# Altium schematic symbol library RDM_ALT_SCH.SchLib: 270 symbols (part 4 of 4)
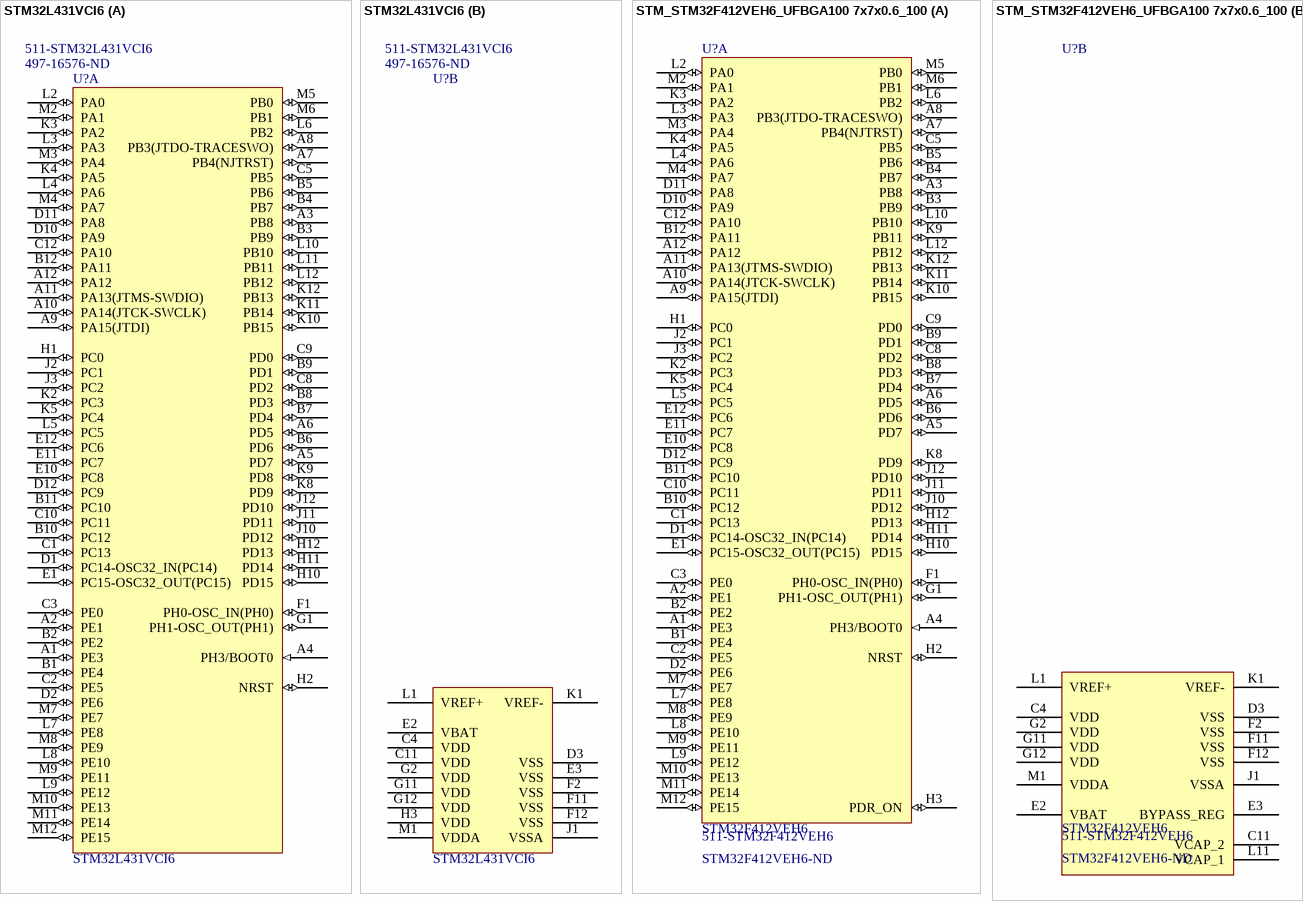
[diagram p12: symbols STM32L431VCI6 to STM_STM32F412VEH6_UFBGA100 7x7x0.6_100]

## STM32L431VCI6
designator U?  Supplier Part Number 1: 497-16576-ND  Supplier Part Number 2: 511-STM32L431VCI6
Ultra-low-power Arm® Cortex®-M4 32-bit MCU+FPU, 100DMIPS, up to 256KB Flash, 64KB SRAM, analog, audio, UFBGA100 7x7x0.6_100; Manufacturer: STMicroelectronics; Replaceable: no; ComponentLink1Description: mouser; ComponentLink1URL: https://www.mouser.ch/ProductDetail/STMicroelectronics/STM32L431VCI6?qs=%2fha2pyFadugH5aS8CDb9Mm3u%252bAbg7zIVJiWcYxu1pWKDX51qWwrkAQ%3d%3d; Manufacturer PartNr: STM32L431VCI6; Footprint/Package: UFBGA-100; Supplier 1: Digi-Key; Supplier 2: Mouser
footprint STM_UFBGA100 7x7x0.6_100_R
part A pins: A1 PE3 (io) "PE3/TRACED0,TIM3_CH1,TSC_G7_IO2,LCD_SEG39,FMC_A19,SAI1_SD_B,EVENTOUT", A2 PE1 (io) "PE1/LCD_SEG37,FMC_NBL1,TIM17_CH1,EVENTOUT", A3 PB8 (io) "PB8/TIM4_CH3,I2C1_SCL,DFSDM_DATIN6,CAN1_RX,LCD_SEG16,SDMMC1_D4,SAI1_MCLK_A,TIM16_CH1,EVENTOUT", A4 PH3/BOOT0 (in) "BOOT0", A5 PD7 (io) "PD7/DFSDM_CKIN1,USART2_CK,FMC_NE1,EVENTOUT", A6 PD5 (io) "PD5/USART2_TX,FMC_NWE,EVENTOUT", A7 PB4(NJTRST) (io) "PB4(NJTRST)/NJTRST,TIM3_CH1,SPI1_MISO,SPI3_MISO,USART1_CTS,UART5_RTS_DE,TSC_G2_IO1,LCD_SEG8,SAI1_MCLK_B,TIM17_BKIN,EVENTOUT/COMP2_INP", A8 PB3(JTDO-TRACESWO) (io) "PB3(JTDO-TRACESWO)/JTDO-TRACESWO,TIM2_CH2,SPI1_SCK,SPI3_SCK,USART1_RTS_DE,LCD_SEG7,SAI1_SCK_B,EVENTOUT/COMP2_INM", A9 PA15(JTDI) (io) "PA15(JTDI)/JTDI,TIM2_CH1,TIM2_ETR,SPI1_NSS,SPI3_NSS,UART4_RTS_DE,TSC_G3_IO1,LCD_SEG17,SAI2_FS_B,EVENTOUT", A10 PA14(JTCK-SWCLK) (io) "PA14(JTCK-SWCLK)/JTCK-SWCLK,EVENTOUT", A11 PA13(JTMS-SWDIO) (io) "PA13(JTMS-SWDIO)/JTMS-SWDIO,IR_OUT,OTG_FS_NOE,EVENTOUT", A12 PA12 (io) "PA12/TIM1_ETR,USART1_RTS_DE,CAN1_TX,OTG_FS_DP,EVENTOUT", B1 PE4 (io) "PE4/TRACED1,TIM3_CH2,DFSDM_DATIN3,TSC_G7_IO3,FMC_A20,SAI1_FS_A,EVENTOUT", B2 PE2 (io) "PE2/TRACECK,TIM3_ETR,TSC_G7_IO1,LCD_SEG38,FMC_A23,SAI1_MCLK_A,EVENTOUT", B3 PB9 (io) "PB9/IR_OUT,TIM4_CH4,I2C1_SDA,SPI2_NSS,DFSDM_CKIN6,CAN1_TX,LCD_COM3,SDMMC1_D5,SAI1_FS_A,TIM17_CH1,EVENTOUT", B4 PB7 (io) "PB7/LPTIM1_IN2,TIM4_CH2,TIM8_BKIN,I2C1_SDA,DFSDM_CKIN5,USART1_RX,UART4_CTS,TSC_G2_IO4,LCD_SEG21,FMC_NL,TIM8_BKIN_COMP1,TIM17_CH1N,EVENTOUT/COMP2_INM,PVD_IN", B5 PB6 (io) "PB6/LPTIM1_ETR,TIM4_CH1,TIM8_BKIN2,I2C1_SCL,DFSDM_DATIN5,USART1_TX,TSC_G2_IO3,TIM8_BKIN2_COMP2,SAI1_FS_B,TIM16_CH1N,EVENTOUT/COMP2_INP", B6 PD6 (io) "PD6/DFSDM_DATIN1,USART2_RX,FMC_NWAIT,SAI1_SD_A,EVENTOUT", B7 PD4 (io) "PD4/SPI2_MOSI,DFSDM_CKIN0,USART2_RTS_DE,FMC_NOE,EVENTOUT", B8 PD3 (io) "PD3/SPI2_MISO,DFSDM_DATIN0,USART2_CTS,FMC_CLK,EVENTOUT", B9 PD1 (io) "PD1/SPI2_SCK,DFSDM_CKIN7,CAN1_TX,FMC_D3,EVENTOUT", B10 PC12 (io) "PC12/SPI3_MOSI,USART3_CK,UART5_TX,TSC_G3_IO4,LCD_COM6/LCD_SEG30/LCD_SEG42,SDMMC1_CK,SAI2_SD_B,EVENTOUT", B11 PC10 (io) "PC10/SPI3_SCK,USART3_TX,UART4_TX,TSC_G3_IO2,LCD_COM4/LCD_SEG28/LCD_SEG40,SDMMC1_D2,SAI2_SCK_B,EVENTOUT", B12 PA11 (io) "PA11/TIM1_CH4,TIM1_BKIN2,USART1_CTS,CAN1_RX,OTG_FS_DM,TIM1_BKIN2_COMP1,EVENTOUT", C1 PC13 (io) "PC13/EVENTOUT/RTC_TAMP1/RTC_TS/RTC_OUT/WKUP2", C2 PE5 (io) "PE5/TRACED2,TIM3_CH3,DFSDM_CKIN3,TSC_G7_IO4,FMC_A21,SAI1_SCK_A,EVENTOUT", C3 PE0 (io) "PE0/TIM4_ETR,LCD_SEG36,FMC_NBL0,TIM16_CH1,EVENTOUT", C5 PB5 (io) "PB5/LPTIM1_IN1,TIM3_CH2,I2C1_SMBA,SPI1_MOSI,SPI3_MOSI,USART1_CK,UART5_CTS,TSC_G2_IO2,LCD_SEG9,COMP2_OUT,SAI1_SD_B,TIM16_BKIN,EVENTOUT", C8 PD2 (io) "PD2/TIM3_ETR,USART3_RTS_DE,UART5_RX,TSC_SYNC,LCD_COM7/LCD_SEG31/LCD_SEG43,SDMMC1_CMD,EVENTOUT", C9 PD0 (io) "PD0/SPI2_NSS,DFSDM_DATIN7,CAN1_RX,FMC_D2,EVENTOUT", C10 PC11 (io) "PC11/SPI3_MISO,USART3_RX,UART4_RX,TSC_G3_IO3,LCD_COM5/LCD_SEG29/LCD_SEG41,SDMMC1_D3,SAI2_MCLK_B,EVENTOUT", C12 PA10 (io) "PA10/TIM1_CH3,USART1_RX,OTG_FS_ID,LCD_COM2,TIM17_BKIN,EVENTOUT", D1 PC14-OSC32_IN(PC14) (io) "PC14-OSC32_IN(PC14)/EVENTOUT/OSC32_IN", D2 PE6 (io) "PE6/TRACED3,TIM3_CH4,FMC_A22,SAI1_SD_A,EVENTOUT/RTC_TAMP3/WKUP3", D10 PA9 (io) "PA9/TIM1_CH2,USART1_TX,LCD_COM1,TIM15_BKIN,EVENTOUT/OTG_FS_VBUS", D11 PA8 (io) "PA8/MCO,TIM1_CH1,USART1_CK,OTG_FS_SOF,LCD_COM0,LPTIM2_OUT,EVENTOUT", D12 PC9 (io) "PC9/TIM8_BKIN2,TIM3_CH4,TIM8_CH4,TSC_G4_IO4,OTG_FS_NOE,LCD_SEG27,SDMMC1_D1,SAI2_EXTCLK,TIM8_BKIN2_COMP1,EVENTOUT", E1 PC15-OSC32_OUT(PC15) (io) "PC15-OSC32_OUT(PC15)/EVENTOUT/OSC32_OUT", E10 PC8 (io) "PC8/TIM3_CH3,TIM8_CH3,TSC_G4_IO3,LCD_SEG26,SDMMC1_D0,EVENTOUT", E11 PC7 (io) "PC7/TIM3_CH2,TIM8_CH2,DFSDM_DATIN3,TSC_G4_IO2,LCD_SEG25,SDMMC1_D7,SAI2_MCLK_B,EVENTOUT", E12 PC6 (io) "PC6/TIM3_CH1,TIM8_CH1,DFSDM_CKIN3,TSC_G4_IO1,LCD_SEG24,SDMMC1_D6,SAI2_MCLK_A,EVENTOUT", F1 PH0-OSC_IN(PH0) (io) "PH0-OSC_IN(PH0)/EVENTOUT/OSC_IN", G1 PH1-OSC_OUT(PH1) (io) "PH1-OSC_OUT(PH1)/EVENTOUT/OSC_OUT", H1 PC0 (io) "PC0/LPTIM1_IN1,I2C3_SCL,DFSDM_DATIN4,LPUART1_RX,LCD_SEG18,LPTIM2_IN1,EVENTOUT/ADC123_IN1", H2 NRST (io), H10 PD15 (io) "PD15/TIM4_CH4,LCD_SEG35,FMC_D1,EVENTOUT", H11 PD14 (io) "PD14/TIM4_CH3,LCD_SEG34,FMC_D0,EVENTOUT", H12 PD13 (io) "PD13/TIM4_CH2,TSC_G6_IO4,LCD_SEG33,FMC_A18,LPTIM2_OUT,EVENTOUT", J2 PC1 (io) "PC1/LPTIM1_OUT,I2C3_SDA,DFSDM_CKIN4,LPUART1_TX,LCD_SEG19,EVENTOUT/ADC123_IN2", J3 PC2 (io) "PC2/LPTIM1_IN2,SPI2_MISO,DFSDM_CKOUT,LCD_SEG20,EVENTOUT/ADC123_IN3", J10 PD12 (io) "PD12/TIM4_CH1,USART3_RTS_DE,TSC_G6_IO3,LCD_SEG32,FMC_A17,SAI2_FS_A,LPTIM2_IN1,EVENTOUT", J11 PD11 (io) "PD11/USART3_CTS,TSC_G6_IO2,LCD_SEG31,FMC_A16,SAI2_SD_A,LPTIM2_ETR,EVENTOUT", J12 PD10 (io) "PD10/USART3_CK,TSC_G6_IO1,LCD_SEG30,FMC_D15,SAI2_SCK_A,EVENTOUT", K2 PC3 (io) "PC3/LPTIM1_ETR,SPI2_MOSI,LCD_VLCD,SAI1_SD_A,LPTIM2_ETR,EVENTOUT/ADC123_IN4", K3 PA2 (io) "PA2/TIM2_CH3,TIM5_CH3,USART2_TX,LCD_SEG1,SAI2_EXTCLK,TIM15_CH1,EVENTOUT/ADC12_IN7,WKUP4/LSCO", K4 PA5 (io) "PA5/TIM2_CH1,TIM2_ETR,TIM8_CH1N,SPI1_SCK,LPTIM2_ETR,EVENTOUT/ADC12_IN10,DAC1_OUT2", K5 PC4 (io) "PC4/USART3_TX,LCD_SEG22,EVENTOUT/COMP1_INM,ADC12_IN13", K8 PD9 (io) "PD9/USART3_RX,LCD_SEG29,FMC_D14,SAI2_MCLK_A,EVENTOUT", K9 PD8 (io) "PD8/USART3_TX,LCD_SEG28,FMC_D13,EVENTOUT", K10 PB15 (io) "PB15/RTC_REFIN,TIM1_CH3N,TIM8_CH3N,SPI2_MOSI,DFSDM_CKIN2,TSC_G1_IO4,LCD_SEG15,SWPMI1_SUSPEND,SAI2_SD_A,TIM15_CH2,EVENTOUT", K11 PB14 (io) "PB14/TIM1_CH2N,TIM8_CH2N,I2C2_SDA,SPI2_MISO,DFSDM_DATIN2,USART3_RTS_DE,TSC_G1_IO3,LCD_SEG14,SWPMI1_RX,SAI2_MCLK_A,TIM15_CH1,EVENTOUT", K12 PB13 (io) "PB13/TIM1_CH1N,I2C2_SCL,SPI2_SCK,DFSDM_CKIN1,USART3_CTS,LPUART1_CTS,TSC_G1_IO2,LCD_SEG13,SWPMI1_TX,SAI2_SCK_A,TIM15_CH1N,EVENTOUT", L2 PA0 (io) "PA0/TIM2_CH1,TIM5_CH1,TIM8_ETR,USART2_CTS,UART4_TX,SAI1_EXTCLK,TIM2_ETR,EVENTOUT/OPAMP1_VINP,ADC12_IN5,RTC_TAMP2/WKUP1", L3 PA3 (io) "PA3/TIM2_CH4,TIM5_CH4,USART2_RX,LCD_SEG2,TIM15_CH2,EVENTOUT/OPAMP1_VOUT,ADC12_IN8", L4 PA6 (io) "PA6/TIM1_BKIN,TIM3_CH1,TIM8_BKIN,SPI1_MISO,USART3_CTS,QUADSPI_BK1_IO3,LCD_SEG3,TIM1_BKIN_COMP2,TIM8_BKIN_COMP2,TIM16_CH1,EVENTOUT/OPAMP2_VINP,ADC12_IN11", L5 PC5 (io) "PC5/USART3_RX,LCD_SEG23,EVENTOUT/COMP1_INP,ADC12_IN14,WKUP5", L6 PB2 (io) "PB2/RTC_OUT,LPTIM1_OUT,I2C3_SMBA,DFSDM_CKIN0,EVENTOUT/COMP1_INP", L7 PE8 (io) "PE8/TIM1_CH1N,DFSDM_CKIN2,FMC_D5,SAI1_SCK_B,EVENTOUT", L8 PE10 (io) "PE10/TIM1_CH2N,DFSDM_DATIN4,TSC_G5_IO1,QUADSPI_CLK,FMC_D7,SAI1_MCLK_B,EVENTOUT", L9 PE12 (io) "PE12/TIM1_CH3N,SPI1_NSS,DFSDM_DATIN5,TSC_G5_IO3,QUADSPI_BK1_IO0,FMC_D9,EVENTOUT", L10 PB10 (io) "PB10/TIM2_CH3,I2C2_SCL,SPI2_SCK,DFSDM_DATIN7,USART3_TX,LPUART1_RX,QUADSPI_CLK,LCD_SEG10,COMP1_OUT,SAI1_SCK_A,EVENTOUT", L11 PB11 (io) "PB11/TIM2_CH4,I2C2_SDA,DFSDM_CKIN7,USART3_RX,LPUART1_TX,QUADSPI_NCS,LCD_SEG11,COMP2_OUT,EVENTOUT", L12 PB12 (io) "PB12/TIM1_BKIN,TIM1_BKIN_COMP2,I2C2_SMBA,SPI2_NSS,DFSDM_DATIN1,USART3_CK,LPUART1_RTS_DE,TSC_G1_IO1,LCD_SEG12,SWPMI1_IO,SAI2_FS_A,TIM15_BKIN,EVENTOUT", M2 PA1 (io) "PA1/TIM2_CH2,TIM5_CH2,USART2_RTS_DE,UART4_RX,LCD_SEG0,TIM15_CH1N,EVENTOUT/OPAMP1_VINM,ADC12_IN6", M3 PA4 (io) "PA4/SPI1_NSS,SPI3_NSS,USART2_CK,SAI1_FS_B,LPTIM2_OUT,EVENTOUT/ADC12_IN9,DAC1_OUT1", M4 PA7 (io) "PA7/TIM1_CH1N,TIM3_CH2,TIM8_CH1N,SPI1_MOSI,QUADSPI_BK1_IO2,LCD_SEG4,TIM17_CH1,EVENTOUT/OPAMP2_VINM,ADC12_IN12", M5 PB0 (io) "PB0/TIM1_CH2N,TIM3_CH3,TIM8_CH2N,USART3_CK,QUADSPI_BK1_IO1,LCD_SEG5,COMP1_OUT,EVENTOUT/OPAMP2_VOUT,ADC12_IN15", M6 PB1 (io) "PB1/TIM1_CH3N,TIM3_CH4,TIM8_CH3N,DFSDM_DATIN0,USART3_RTS_DE,QUADSPI_BK1_IO0,LCD_SEG6,LPTIM2_IN1,EVENTOUT/COMP1_INM,ADC12_IN16", M7 PE7 (io) "PE7/TIM1_ETR,DFSDM_DATIN2,FMC_D4,SAI1_SD_B,EVENTOUT", M8 PE9 (io) "PE9/TIM1_CH1,DFSDM_CKOUT,FMC_D6,SAI1_FS_B,EVENTOUT", M9 PE11 (io) "PE11/TIM1_CH2,DFSDM_CKIN4,TSC_G5_IO2,QUADSPI_NCS,FMC_D8,EVENTOUT", M10 PE13 (io) "PE13/TIM1_CH3,SPI1_SCK,DFSDM_CKIN5,TSC_G5_IO4,QUADSPI_BK1_IO1,FMC_D10,EVENTOUT", M11 PE14 (io) "PE14/TIM1_CH4,TIM1_BKIN2,TIM1_BKIN2_COMP2,SPI1_MISO,QUADSPI_BK1_IO2,FMC_D11,EVENTOUT", M12 PE15 (io) "PE15/TIM1_BKIN,TIM1_BKIN_COMP1,SPI1_MOSI,QUADSPI_BK1_IO3,FMC_D12,EVENTOUT"
part B pins: C4 VDD (power), C11 VDD (power), D3 VSS (power), E2 VBAT (power), E3 VSS (power), F2 VSS (power), F11 VSS (power), F12 VSS (power), G2 VDD (power), G11 VDD (power), G12 VDD (power), H3 VDD (power), J1 VSSA (power), K1 VREF- (power), L1 VREF+ (power) "VREF+/VREFBUF_OUT", M1 VDDA (power)

## STM_STM32F412VEH6_UFBGA100 7x7x0.6_100
designator U?, comment STM32F412VEH6  Supplier Part Number 1: STM32F412VEH6-ND  Supplier Part Number 2: 511-STM32F412VEH6
STM32 Dynamic Efficiency MCU with BAM, High-performance and DSP with FPU, ARM Cortex-M4 MCU with 512 Kbytes Flash, 100 MHz CPU, Art Accelerator, DFSDM; Manufacturer: STMicroelectronics; Replaceable: no; ComponentLink1Description: mouser; ComponentLink1URL: https://www.mouser.ch/ProductDetail/STMicroelectronics/STM32L431VCI6?qs=%2fha2pyFadugH5aS8CDb9Mm3u%252bAbg7zIVJiWcYxu1pWKDX51qWwrkAQ%3d%3d; Manufacturer PartNr: STM32F412VEH6; Footprint/Package: UFBGA-100; Supplier 1: Digi-Key; Supplier 2: Mouser
footprint STM_UFBGA100 7x7x0.6_100_R
part A pins: A1 PE3 (io) "PE3/TRACED0,TIM3_CH1,TSC_G7_IO2,LCD_SEG39,FMC_A19,SAI1_SD_B,EVENTOUT", A2 PE1 (io) "PE1/LCD_SEG37,FMC_NBL1,TIM17_CH1,EVENTOUT", A3 PB8 (io) "PB8/TIM4_CH3,I2C1_SCL,DFSDM_DATIN6,CAN1_RX,LCD_SEG16,SDMMC1_D4,SAI1_MCLK_A,TIM16_CH1,EVENTOUT", A4 PH3/BOOT0 (in) "BOOT0", A5 PD7 (io) "PD7/DFSDM_CKIN1,USART2_CK,FMC_NE1,EVENTOUT", A6 PD5 (io) "PD5/USART2_TX,FMC_NWE,EVENTOUT", A7 PB4(NJTRST) (io) "PB4(NJTRST)/NJTRST,TIM3_CH1,SPI1_MISO,SPI3_MISO,USART1_CTS,UART5_RTS_DE,TSC_G2_IO1,LCD_SEG8,SAI1_MCLK_B,TIM17_BKIN,EVENTOUT/COMP2_INP", A8 PB3(JTDO-TRACESWO) (io) "PB3(JTDO-TRACESWO)/JTDO-TRACESWO,TIM2_CH2,SPI1_SCK,SPI3_SCK,USART1_RTS_DE,LCD_SEG7,SAI1_SCK_B,EVENTOUT/COMP2_INM", A9 PA15(JTDI) (io) "PA15(JTDI)/JTDI,TIM2_CH1,TIM2_ETR,SPI1_NSS,SPI3_NSS,UART4_RTS_DE,TSC_G3_IO1,LCD_SEG17,SAI2_FS_B,EVENTOUT", A10 PA14(JTCK-SWCLK) (io) "PA14(JTCK-SWCLK)/JTCK-SWCLK,EVENTOUT", A11 PA13(JTMS-SWDIO) (io) "PA13(JTMS-SWDIO)/JTMS-SWDIO,IR_OUT,OTG_FS_NOE,EVENTOUT", A12 PA12 (io) "PA12/TIM1_ETR,USART1_RTS_DE,CAN1_TX,OTG_FS_DP,EVENTOUT", B1 PE4 (io) "PE4/TRACED1,TIM3_CH2,DFSDM_DATIN3,TSC_G7_IO3,FMC_A20,SAI1_FS_A,EVENTOUT", B2 PE2 (io) "PE2/TRACECK,TIM3_ETR,TSC_G7_IO1,LCD_SEG38,FMC_A23,SAI1_MCLK_A,EVENTOUT", B3 PB9 (io) "PB9/IR_OUT,TIM4_CH4,I2C1_SDA,SPI2_NSS,DFSDM_CKIN6,CAN1_TX,LCD_COM3,SDMMC1_D5,SAI1_FS_A,TIM17_CH1,EVENTOUT", B4 PB7 (io) "PB7/LPTIM1_IN2,TIM4_CH2,TIM8_BKIN,I2C1_SDA,DFSDM_CKIN5,USART1_RX,UART4_CTS,TSC_G2_IO4,LCD_SEG21,FMC_NL,TIM8_BKIN_COMP1,TIM17_CH1N,EVENTOUT/COMP2_INM,PVD_IN", B5 PB6 (io) "PB6/LPTIM1_ETR,TIM4_CH1,TIM8_BKIN2,I2C1_SCL,DFSDM_DATIN5,USART1_TX,TSC_G2_IO3,TIM8_BKIN2_COMP2,SAI1_FS_B,TIM16_CH1N,EVENTOUT/COMP2_INP", B6 PD6 (io) "PD6/DFSDM_DATIN1,USART2_RX,FMC_NWAIT,SAI1_SD_A,EVENTOUT", B7 PD4 (io) "PD4/SPI2_MOSI,DFSDM_CKIN0,USART2_RTS_DE,FMC_NOE,EVENTOUT", B8 PD3 (io) "PD3/SPI2_MISO,DFSDM_DATIN0,USART2_CTS,FMC_CLK,EVENTOUT", B9 PD1 (io) "PD1/SPI2_SCK,DFSDM_CKIN7,CAN1_TX,FMC_D3,EVENTOUT", B10 PC12 (io) "PC12/SPI3_MOSI,USART3_CK,UART5_TX,TSC_G3_IO4,LCD_COM6/LCD_SEG30/LCD_SEG42,SDMMC1_CK,SAI2_SD_B,EVENTOUT", B11 PC10 (io) "PC10/SPI3_SCK,USART3_TX,UART4_TX,TSC_G3_IO2,LCD_COM4/LCD_SEG28/LCD_SEG40,SDMMC1_D2,SAI2_SCK_B,EVENTOUT", B12 PA11 (io) "PA11/TIM1_CH4,TIM1_BKIN2,USART1_CTS,CAN1_RX,OTG_FS_DM,TIM1_BKIN2_COMP1,EVENTOUT", C1 PC13 (io) "PC13/EVENTOUT/RTC_TAMP1/RTC_TS/RTC_OUT/WKUP2", C2 PE5 (io) "PE5/TRACED2,TIM3_CH3,DFSDM_CKIN3,TSC_G7_IO4,FMC_A21,SAI1_SCK_A,EVENTOUT", C3 PE0 (io) "PE0/TIM4_ETR,LCD_SEG36,FMC_NBL0,TIM16_CH1,EVENTOUT", C5 PB5 (io) "PB5/LPTIM1_IN1,TIM3_CH2,I2C1_SMBA,SPI1_MOSI,SPI3_MOSI,USART1_CK,UART5_CTS,TSC_G2_IO2,LCD_SEG9,COMP2_OUT,SAI1_SD_B,TIM16_BKIN,EVENTOUT", C8 PD2 (io) "PD2/TIM3_ETR,USART3_RTS_DE,UART5_RX,TSC_SYNC,LCD_COM7/LCD_SEG31/LCD_SEG43,SDMMC1_CMD,EVENTOUT", C9 PD0 (io) "PD0/SPI2_NSS,DFSDM_DATIN7,CAN1_RX,FMC_D2,EVENTOUT", C10 PC11 (io) "PC11/SPI3_MISO,USART3_RX,UART4_RX,TSC_G3_IO3,LCD_COM5/LCD_SEG29/LCD_SEG41,SDMMC1_D3,SAI2_MCLK_B,EVENTOUT", C12 PA10 (io) "PA10/TIM1_CH3,USART1_RX,OTG_FS_ID,LCD_COM2,TIM17_BKIN,EVENTOUT", D1 PC14-OSC32_IN(PC14) (io) "PC14-OSC32_IN(PC14)/EVENTOUT/OSC32_IN", D2 PE6 (io) "PE6/TRACED3,TIM3_CH4,FMC_A22,SAI1_SD_A,EVENTOUT/RTC_TAMP3/WKUP3", D10 PA9 (io) "PA9/TIM1_CH2,USART1_TX,LCD_COM1,TIM15_BKIN,EVENTOUT/OTG_FS_VBUS", D11 PA8 (io) "PA8/MCO,TIM1_CH1,USART1_CK,OTG_FS_SOF,LCD_COM0,LPTIM2_OUT,EVENTOUT", D12 PC9 (io) "PC9/TIM8_BKIN2,TIM3_CH4,TIM8_CH4,TSC_G4_IO4,OTG_FS_NOE,LCD_SEG27,SDMMC1_D1,SAI2_EXTCLK,TIM8_BKIN2_COMP1,EVENTOUT", E1 PC15-OSC32_OUT(PC15) (io) "PC15-OSC32_OUT(PC15)/EVENTOUT/OSC32_OUT", E10 PC8 (io) "PC8/TIM3_CH3,TIM8_CH3,TSC_G4_IO3,LCD_SEG26,SDMMC1_D0,EVENTOUT", E11 PC7 (io) "PC7/TIM3_CH2,TIM8_CH2,DFSDM_DATIN3,TSC_G4_IO2,LCD_SEG25,SDMMC1_D7,SAI2_MCLK_B,EVENTOUT", E12 PC6 (io) "PC6/TIM3_CH1,TIM8_CH1,DFSDM_CKIN3,TSC_G4_IO1,LCD_SEG24,SDMMC1_D6,SAI2_MCLK_A,EVENTOUT", F1 PH0-OSC_IN(PH0) (io) "PH0-OSC_IN(PH0)/EVENTOUT/OSC_IN", G1 PH1-OSC_OUT(PH1) (io) "PH1-OSC_OUT(PH1)/EVENTOUT/OSC_OUT", H1 PC0 (io) "PC0/LPTIM1_IN1,I2C3_SCL,DFSDM_DATIN4,LPUART1_RX,LCD_SEG18,LPTIM2_IN1,EVENTOUT/ADC123_IN1", H2 NRST (io), H3 PDR_ON (io), H10 PD15 (io) "PD15/TIM4_CH4,LCD_SEG35,FMC_D1,EVENTOUT", H11 PD14 (io) "PD14/TIM4_CH3,LCD_SEG34,FMC_D0,EVENTOUT", H12 PD13 (io) "PD13/TIM4_CH2,TSC_G6_IO4,LCD_SEG33,FMC_A18,LPTIM2_OUT,EVENTOUT", J2 PC1 (io) "PC1/LPTIM1_OUT,I2C3_SDA,DFSDM_CKIN4,LPUART1_TX,LCD_SEG19,EVENTOUT/ADC123_IN2", J3 PC2 (io) "PC2/LPTIM1_IN2,SPI2_MISO,DFSDM_CKOUT,LCD_SEG20,EVENTOUT/ADC123_IN3", J10 PD12 (io) "PD12/TIM4_CH1,USART3_RTS_DE,TSC_G6_IO3,LCD_SEG32,FMC_A17,SAI2_FS_A,LPTIM2_IN1,EVENTOUT", J11 PD11 (io) "PD11/USART3_CTS,TSC_G6_IO2,LCD_SEG31,FMC_A16,SAI2_SD_A,LPTIM2_ETR,EVENTOUT", J12 PD10 (io) "PD10/USART3_CK,TSC_G6_IO1,LCD_SEG30,FMC_D15,SAI2_SCK_A,EVENTOUT", K2 PC3 (io) "PC3/LPTIM1_ETR,SPI2_MOSI,LCD_VLCD,SAI1_SD_A,LPTIM2_ETR,EVENTOUT/ADC123_IN4", K3 PA2 (io) "PA2/TIM2_CH3,TIM5_CH3,USART2_TX,LCD_SEG1,SAI2_EXTCLK,TIM15_CH1,EVENTOUT/ADC12_IN7,WKUP4/LSCO", K4 PA5 (io) "PA5/TIM2_CH1,TIM2_ETR,TIM8_CH1N,SPI1_SCK,LPTIM2_ETR,EVENTOUT/ADC12_IN10,DAC1_OUT2", K5 PC4 (io) "PC4/USART3_TX,LCD_SEG22,EVENTOUT/COMP1_INM,ADC12_IN13", K8 PD9 (io) "PD9/USART3_RX,LCD_SEG29,FMC_D14,SAI2_MCLK_A,EVENTOUT", K9 PB11 (io) "PB11/TIM2_CH4,I2C2_SDA,DFSDM_CKIN7,USART3_RX,LPUART1_TX,QUADSPI_NCS,LCD_SEG11,COMP2_OUT,EVENTOUT", K10 PB15 (io) "PB15/RTC_REFIN,TIM1_CH3N,TIM8_CH3N,SPI2_MOSI,DFSDM_CKIN2,TSC_G1_IO4,LCD_SEG15,SWPMI1_SUSPEND,SAI2_SD_A,TIM15_CH2,EVENTOUT", K11 PB14 (io) "PB14/TIM1_CH2N,TIM8_CH2N,I2C2_SDA,SPI2_MISO,DFSDM_DATIN2,USART3_RTS_DE,TSC_G1_IO3,LCD_SEG14,SWPMI1_RX,SAI2_MCLK_A,TIM15_CH1,EVENTOUT", K12 PB13 (io) "PB13/TIM1_CH1N,I2C2_SCL,SPI2_SCK,DFSDM_CKIN1,USART3_CTS,LPUART1_CTS,TSC_G1_IO2,LCD_SEG13,SWPMI1_TX,SAI2_SCK_A,TIM15_CH1N,EVENTOUT", L2 PA0 (io) "PA0/TIM2_CH1,TIM5_CH1,TIM8_ETR,USART2_CTS,UART4_TX,SAI1_EXTCLK,TIM2_ETR,EVENTOUT/OPAMP1_VINP,ADC12_IN5,RTC_TAMP2/WKUP1", L3 PA3 (io) "PA3/TIM2_CH4,TIM5_CH4,USART2_RX,LCD_SEG2,TIM15_CH2,EVENTOUT/OPAMP1_VOUT,ADC12_IN8", L4 PA6 (io) "PA6/TIM1_BKIN,TIM3_CH1,TIM8_BKIN,SPI1_MISO,USART3_CTS,QUADSPI_BK1_IO3,LCD_SEG3,TIM1_BKIN_COMP2,TIM8_BKIN_COMP2,TIM16_CH1,EVENTOUT/OPAMP2_VINP,ADC12_IN11", L5 PC5 (io) "PC5/USART3_RX,LCD_SEG23,EVENTOUT/COMP1_INP,ADC12_IN14,WKUP5", L6 PB2 (io) "PB2/RTC_OUT,LPTIM1_OUT,I2C3_SMBA,DFSDM_CKIN0,EVENTOUT/COMP1_INP", L7 PE8 (io) "PE8/TIM1_CH1N,DFSDM_CKIN2,FMC_D5,SAI1_SCK_B,EVENTOUT", L8 PE10 (io) "PE10/TIM1_CH2N,DFSDM_DATIN4,TSC_G5_IO1,QUADSPI_CLK,FMC_D7,SAI1_MCLK_B,EVENTOUT", L9 PE12 (io) "PE12/TIM1_CH3N,SPI1_NSS,DFSDM_DATIN5,TSC_G5_IO3,QUADSPI_BK1_IO0,FMC_D9,EVENTOUT", L10 PB10 (io) "PB10/TIM2_CH3,I2C2_SCL,SPI2_SCK,DFSDM_DATIN7,USART3_TX,LPUART1_RX,QUADSPI_CLK,LCD_SEG10,COMP1_OUT,SAI1_SCK_A,EVENTOUT", L12 PB12 (io) "PB12/TIM1_BKIN,TIM1_BKIN_COMP2,I2C2_SMBA,SPI2_NSS,DFSDM_DATIN1,USART3_CK,LPUART1_RTS_DE,TSC_G1_IO1,LCD_SEG12,SWPMI1_IO,SAI2_FS_A,TIM15_BKIN,EVENTOUT", M2 PA1 (io) "PA1/TIM2_CH2,TIM5_CH2,USART2_RTS_DE,UART4_RX,LCD_SEG0,TIM15_CH1N,EVENTOUT/OPAMP1_VINM,ADC12_IN6", M3 PA4 (io) "PA4/SPI1_NSS,SPI3_NSS,USART2_CK,SAI1_FS_B,LPTIM2_OUT,EVENTOUT/ADC12_IN9,DAC1_OUT1", M4 PA7 (io) "PA7/TIM1_CH1N,TIM3_CH2,TIM8_CH1N,SPI1_MOSI,QUADSPI_BK1_IO2,LCD_SEG4,TIM17_CH1,EVENTOUT/OPAMP2_VINM,ADC12_IN12", M5 PB0 (io) "PB0/TIM1_CH2N,TIM3_CH3,TIM8_CH2N,USART3_CK,QUADSPI_BK1_IO1,LCD_SEG5,COMP1_OUT,EVENTOUT/OPAMP2_VOUT,ADC12_IN15", M6 PB1 (io) "PB1/TIM1_CH3N,TIM3_CH4,TIM8_CH3N,DFSDM_DATIN0,USART3_RTS_DE,QUADSPI_BK1_IO0,LCD_SEG6,LPTIM2_IN1,EVENTOUT/COMP1_INM,ADC12_IN16", M7 PE7 (io) "PE7/TIM1_ETR,DFSDM_DATIN2,FMC_D4,SAI1_SD_B,EVENTOUT", M8 PE9 (io) "PE9/TIM1_CH1,DFSDM_CKOUT,FMC_D6,SAI1_FS_B,EVENTOUT", M9 PE11 (io) "PE11/TIM1_CH2,DFSDM_CKIN4,TSC_G5_IO2,QUADSPI_NCS,FMC_D8,EVENTOUT", M10 PE13 (io) "PE13/TIM1_CH3,SPI1_SCK,DFSDM_CKIN5,TSC_G5_IO4,QUADSPI_BK1_IO1,FMC_D10,EVENTOUT", M11 PE14 (io) "PE14/TIM1_CH4,TIM1_BKIN2,TIM1_BKIN2_COMP2,SPI1_MISO,QUADSPI_BK1_IO2,FMC_D11,EVENTOUT", M12 PE15 (io) "PE15/TIM1_BKIN,TIM1_BKIN_COMP1,SPI1_MOSI,QUADSPI_BK1_IO3,FMC_D12,EVENTOUT"
part B pins: C4 VDD (power), C11 VCAP_2 (power) "VSSA", D3 VSS (power), E2 VBAT (power), E3 BYPASS_REG (power) "VSSA", F2 VSS (power), F11 VSS (power), F12 VSS (power), G2 VDD (power), G11 VDD (power), G12 VDD (power), J1 VSSA (power), K1 VREF- (power), L1 VREF+ (power) "VREF+/VREFBUF_OUT", L11 VCAP_1 (power) "VSSA", M1 VDDA (power)

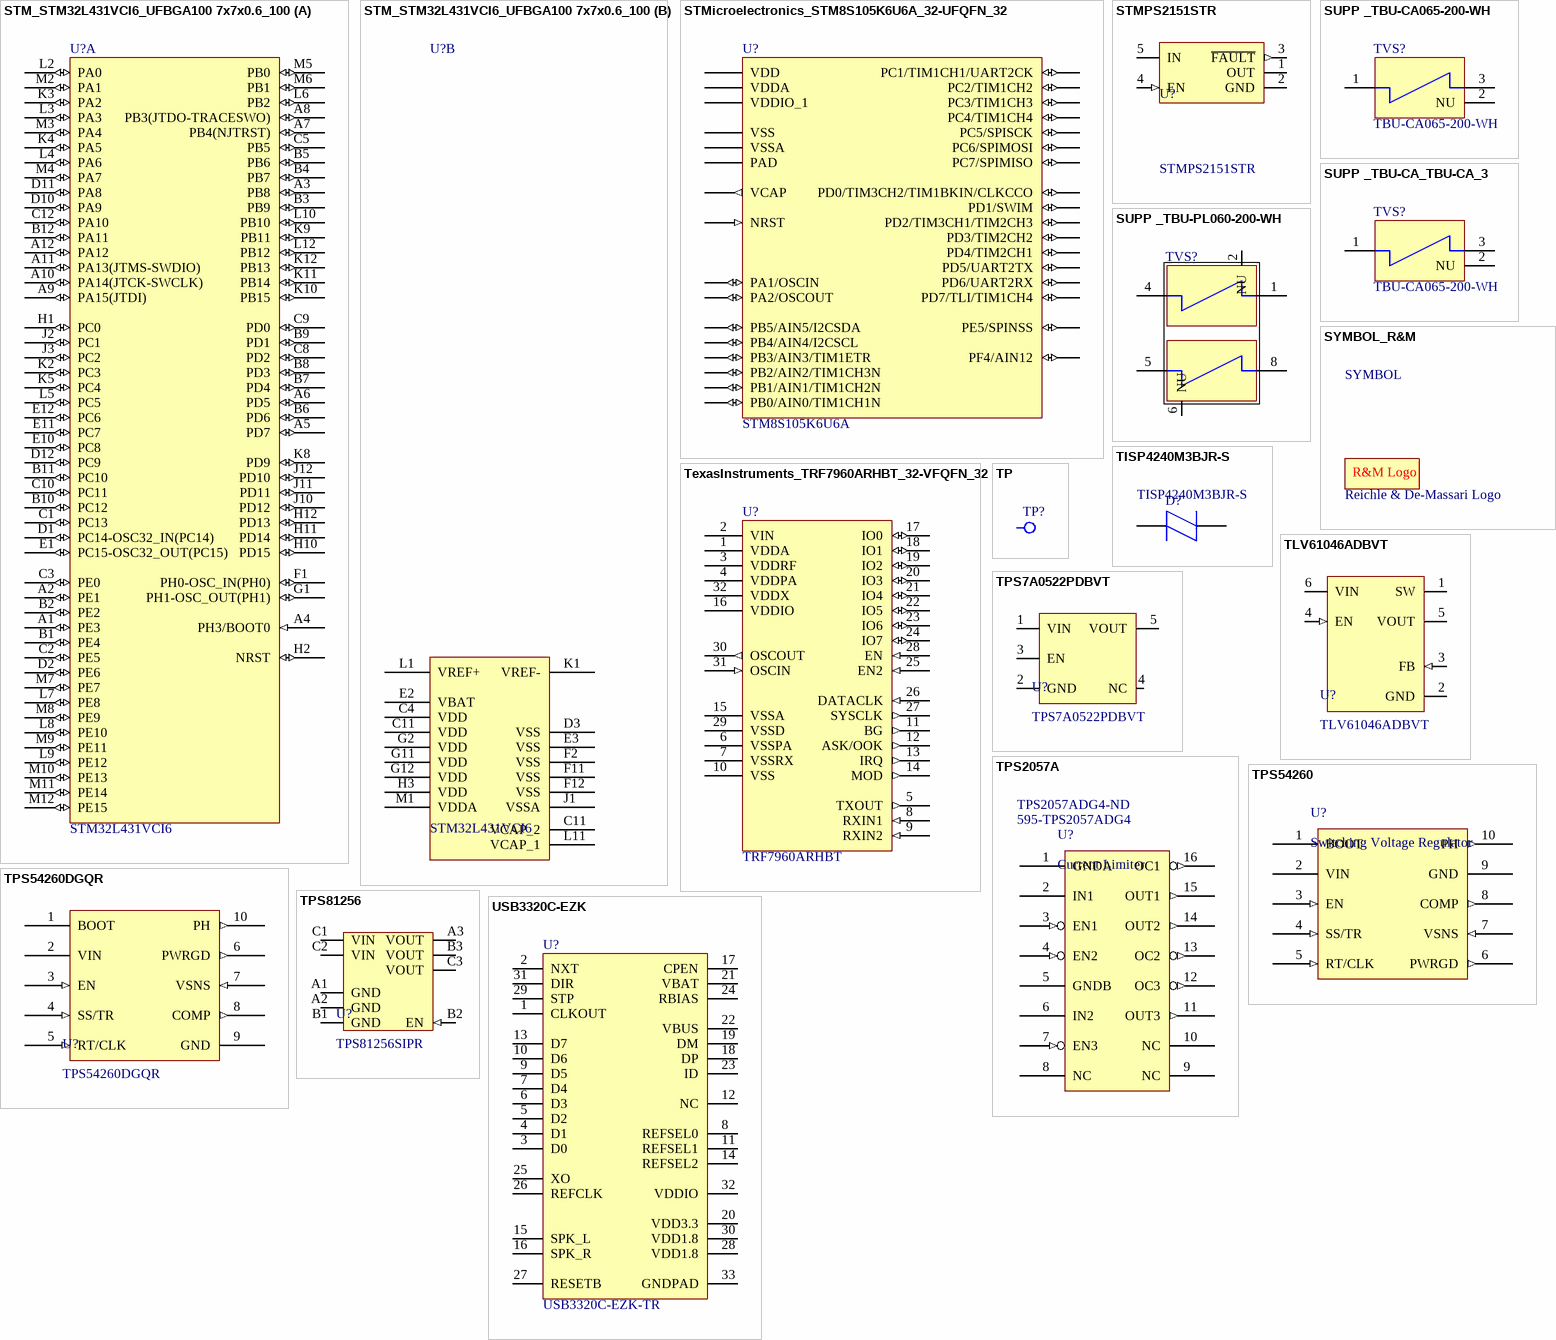
[diagram p8: symbols STM_STM32L431VCI6_UFBGA100 7x7x0.6_100 to USB3320C-EZK]

## STM_STM32L431VCI6_UFBGA100 7x7x0.6_100
designator U?, comment STM32L431VCI6
Ultra-low-power Arm® Cortex®-M4 32-bit MCU+FPU, 100DMIPS, up to 256KB Flash, 64KB SRAM, analog, audio; Manufacturer: STM; Manufacturer PartNr: STM32L431VCI6; ShortDescription: STM32L431VCI6
footprint STM_UFBGA100 7x7x0.6_100_R
part A pins: A1 PE3 (io) "PE3/TRACED0,TIM3_CH1,TSC_G7_IO2,LCD_SEG39,FMC_A19,SAI1_SD_B,EVENTOUT", A2 PE1 (io) "PE1/LCD_SEG37,FMC_NBL1,TIM17_CH1,EVENTOUT", A3 PB8 (io) "PB8/TIM4_CH3,I2C1_SCL,DFSDM_DATIN6,CAN1_RX,LCD_SEG16,SDMMC1_D4,SAI1_MCLK_A,TIM16_CH1,EVENTOUT", A4 PH3/BOOT0 (in) "BOOT0", A5 PD7 (io) "PD7/DFSDM_CKIN1,USART2_CK,FMC_NE1,EVENTOUT", A6 PD5 (io) "PD5/USART2_TX,FMC_NWE,EVENTOUT", A7 PB4(NJTRST) (io) "PB4(NJTRST)/NJTRST,TIM3_CH1,SPI1_MISO,SPI3_MISO,USART1_CTS,UART5_RTS_DE,TSC_G2_IO1,LCD_SEG8,SAI1_MCLK_B,TIM17_BKIN,EVENTOUT/COMP2_INP", A8 PB3(JTDO-TRACESWO) (io) "PB3(JTDO-TRACESWO)/JTDO-TRACESWO,TIM2_CH2,SPI1_SCK,SPI3_SCK,USART1_RTS_DE,LCD_SEG7,SAI1_SCK_B,EVENTOUT/COMP2_INM", A9 PA15(JTDI) (io) "PA15(JTDI)/JTDI,TIM2_CH1,TIM2_ETR,SPI1_NSS,SPI3_NSS,UART4_RTS_DE,TSC_G3_IO1,LCD_SEG17,SAI2_FS_B,EVENTOUT", A10 PA14(JTCK-SWCLK) (io) "PA14(JTCK-SWCLK)/JTCK-SWCLK,EVENTOUT", A11 PA13(JTMS-SWDIO) (io) "PA13(JTMS-SWDIO)/JTMS-SWDIO,IR_OUT,OTG_FS_NOE,EVENTOUT", A12 PA12 (io) "PA12/TIM1_ETR,USART1_RTS_DE,CAN1_TX,OTG_FS_DP,EVENTOUT", B1 PE4 (io) "PE4/TRACED1,TIM3_CH2,DFSDM_DATIN3,TSC_G7_IO3,FMC_A20,SAI1_FS_A,EVENTOUT", B2 PE2 (io) "PE2/TRACECK,TIM3_ETR,TSC_G7_IO1,LCD_SEG38,FMC_A23,SAI1_MCLK_A,EVENTOUT", B3 PB9 (io) "PB9/IR_OUT,TIM4_CH4,I2C1_SDA,SPI2_NSS,DFSDM_CKIN6,CAN1_TX,LCD_COM3,SDMMC1_D5,SAI1_FS_A,TIM17_CH1,EVENTOUT", B4 PB7 (io) "PB7/LPTIM1_IN2,TIM4_CH2,TIM8_BKIN,I2C1_SDA,DFSDM_CKIN5,USART1_RX,UART4_CTS,TSC_G2_IO4,LCD_SEG21,FMC_NL,TIM8_BKIN_COMP1,TIM17_CH1N,EVENTOUT/COMP2_INM,PVD_IN", B5 PB6 (io) "PB6/LPTIM1_ETR,TIM4_CH1,TIM8_BKIN2,I2C1_SCL,DFSDM_DATIN5,USART1_TX,TSC_G2_IO3,TIM8_BKIN2_COMP2,SAI1_FS_B,TIM16_CH1N,EVENTOUT/COMP2_INP", B6 PD6 (io) "PD6/DFSDM_DATIN1,USART2_RX,FMC_NWAIT,SAI1_SD_A,EVENTOUT", B7 PD4 (io) "PD4/SPI2_MOSI,DFSDM_CKIN0,USART2_RTS_DE,FMC_NOE,EVENTOUT", B8 PD3 (io) "PD3/SPI2_MISO,DFSDM_DATIN0,USART2_CTS,FMC_CLK,EVENTOUT", B9 PD1 (io) "PD1/SPI2_SCK,DFSDM_CKIN7,CAN1_TX,FMC_D3,EVENTOUT", B10 PC12 (io) "PC12/SPI3_MOSI,USART3_CK,UART5_TX,TSC_G3_IO4,LCD_COM6/LCD_SEG30/LCD_SEG42,SDMMC1_CK,SAI2_SD_B,EVENTOUT", B11 PC10 (io) "PC10/SPI3_SCK,USART3_TX,UART4_TX,TSC_G3_IO2,LCD_COM4/LCD_SEG28/LCD_SEG40,SDMMC1_D2,SAI2_SCK_B,EVENTOUT", B12 PA11 (io) "PA11/TIM1_CH4,TIM1_BKIN2,USART1_CTS,CAN1_RX,OTG_FS_DM,TIM1_BKIN2_COMP1,EVENTOUT", C1 PC13 (io) "PC13/EVENTOUT/RTC_TAMP1/RTC_TS/RTC_OUT/WKUP2", C2 PE5 (io) "PE5/TRACED2,TIM3_CH3,DFSDM_CKIN3,TSC_G7_IO4,FMC_A21,SAI1_SCK_A,EVENTOUT", C3 PE0 (io) "PE0/TIM4_ETR,LCD_SEG36,FMC_NBL0,TIM16_CH1,EVENTOUT", C5 PB5 (io) "PB5/LPTIM1_IN1,TIM3_CH2,I2C1_SMBA,SPI1_MOSI,SPI3_MOSI,USART1_CK,UART5_CTS,TSC_G2_IO2,LCD_SEG9,COMP2_OUT,SAI1_SD_B,TIM16_BKIN,EVENTOUT", C8 PD2 (io) "PD2/TIM3_ETR,USART3_RTS_DE,UART5_RX,TSC_SYNC,LCD_COM7/LCD_SEG31/LCD_SEG43,SDMMC1_CMD,EVENTOUT", C9 PD0 (io) "PD0/SPI2_NSS,DFSDM_DATIN7,CAN1_RX,FMC_D2,EVENTOUT", C10 PC11 (io) "PC11/SPI3_MISO,USART3_RX,UART4_RX,TSC_G3_IO3,LCD_COM5/LCD_SEG29/LCD_SEG41,SDMMC1_D3,SAI2_MCLK_B,EVENTOUT", C12 PA10 (io) "PA10/TIM1_CH3,USART1_RX,OTG_FS_ID,LCD_COM2,TIM17_BKIN,EVENTOUT", D1 PC14-OSC32_IN(PC14) (io) "PC14-OSC32_IN(PC14)/EVENTOUT/OSC32_IN", D2 PE6 (io) "PE6/TRACED3,TIM3_CH4,FMC_A22,SAI1_SD_A,EVENTOUT/RTC_TAMP3/WKUP3", D10 PA9 (io) "PA9/TIM1_CH2,USART1_TX,LCD_COM1,TIM15_BKIN,EVENTOUT/OTG_FS_VBUS", D11 PA8 (io) "PA8/MCO,TIM1_CH1,USART1_CK,OTG_FS_SOF,LCD_COM0,LPTIM2_OUT,EVENTOUT", D12 PC9 (io) "PC9/TIM8_BKIN2,TIM3_CH4,TIM8_CH4,TSC_G4_IO4,OTG_FS_NOE,LCD_SEG27,SDMMC1_D1,SAI2_EXTCLK,TIM8_BKIN2_COMP1,EVENTOUT", E1 PC15-OSC32_OUT(PC15) (io) "PC15-OSC32_OUT(PC15)/EVENTOUT/OSC32_OUT", E10 PC8 (io) "PC8/TIM3_CH3,TIM8_CH3,TSC_G4_IO3,LCD_SEG26,SDMMC1_D0,EVENTOUT", E11 PC7 (io) "PC7/TIM3_CH2,TIM8_CH2,DFSDM_DATIN3,TSC_G4_IO2,LCD_SEG25,SDMMC1_D7,SAI2_MCLK_B,EVENTOUT", E12 PC6 (io) "PC6/TIM3_CH1,TIM8_CH1,DFSDM_CKIN3,TSC_G4_IO1,LCD_SEG24,SDMMC1_D6,SAI2_MCLK_A,EVENTOUT", F1 PH0-OSC_IN(PH0) (io) "PH0-OSC_IN(PH0)/EVENTOUT/OSC_IN", G1 PH1-OSC_OUT(PH1) (io) "PH1-OSC_OUT(PH1)/EVENTOUT/OSC_OUT", H1 PC0 (io) "PC0/LPTIM1_IN1,I2C3_SCL,DFSDM_DATIN4,LPUART1_RX,LCD_SEG18,LPTIM2_IN1,EVENTOUT/ADC123_IN1", H2 NRST (io), H10 PD15 (io) "PD15/TIM4_CH4,LCD_SEG35,FMC_D1,EVENTOUT", H11 PD14 (io) "PD14/TIM4_CH3,LCD_SEG34,FMC_D0,EVENTOUT", H12 PD13 (io) "PD13/TIM4_CH2,TSC_G6_IO4,LCD_SEG33,FMC_A18,LPTIM2_OUT,EVENTOUT", J2 PC1 (io) "PC1/LPTIM1_OUT,I2C3_SDA,DFSDM_CKIN4,LPUART1_TX,LCD_SEG19,EVENTOUT/ADC123_IN2", J3 PC2 (io) "PC2/LPTIM1_IN2,SPI2_MISO,DFSDM_CKOUT,LCD_SEG20,EVENTOUT/ADC123_IN3", J10 PD12 (io) "PD12/TIM4_CH1,USART3_RTS_DE,TSC_G6_IO3,LCD_SEG32,FMC_A17,SAI2_FS_A,LPTIM2_IN1,EVENTOUT", J11 PD11 (io) "PD11/USART3_CTS,TSC_G6_IO2,LCD_SEG31,FMC_A16,SAI2_SD_A,LPTIM2_ETR,EVENTOUT", J12 PD10 (io) "PD10/USART3_CK,TSC_G6_IO1,LCD_SEG30,FMC_D15,SAI2_SCK_A,EVENTOUT", K2 PC3 (io) "PC3/LPTIM1_ETR,SPI2_MOSI,LCD_VLCD,SAI1_SD_A,LPTIM2_ETR,EVENTOUT/ADC123_IN4", K3 PA2 (io) "PA2/TIM2_CH3,TIM5_CH3,USART2_TX,LCD_SEG1,SAI2_EXTCLK,TIM15_CH1,EVENTOUT/ADC12_IN7,WKUP4/LSCO", K4 PA5 (io) "PA5/TIM2_CH1,TIM2_ETR,TIM8_CH1N,SPI1_SCK,LPTIM2_ETR,EVENTOUT/ADC12_IN10,DAC1_OUT2", K5 PC4 (io) "PC4/USART3_TX,LCD_SEG22,EVENTOUT/COMP1_INM,ADC12_IN13", K8 PD9 (io) "PD9/USART3_RX,LCD_SEG29,FMC_D14,SAI2_MCLK_A,EVENTOUT", K9 PB11 (io) "PB11/TIM2_CH4,I2C2_SDA,DFSDM_CKIN7,USART3_RX,LPUART1_TX,QUADSPI_NCS,LCD_SEG11,COMP2_OUT,EVENTOUT", K10 PB15 (io) "PB15/RTC_REFIN,TIM1_CH3N,TIM8_CH3N,SPI2_MOSI,DFSDM_CKIN2,TSC_G1_IO4,LCD_SEG15,SWPMI1_SUSPEND,SAI2_SD_A,TIM15_CH2,EVENTOUT", K11 PB14 (io) "PB14/TIM1_CH2N,TIM8_CH2N,I2C2_SDA,SPI2_MISO,DFSDM_DATIN2,USART3_RTS_DE,TSC_G1_IO3,LCD_SEG14,SWPMI1_RX,SAI2_MCLK_A,TIM15_CH1,EVENTOUT", K12 PB13 (io) "PB13/TIM1_CH1N,I2C2_SCL,SPI2_SCK,DFSDM_CKIN1,USART3_CTS,LPUART1_CTS,TSC_G1_IO2,LCD_SEG13,SWPMI1_TX,SAI2_SCK_A,TIM15_CH1N,EVENTOUT", L2 PA0 (io) "PA0/TIM2_CH1,TIM5_CH1,TIM8_ETR,USART2_CTS,UART4_TX,SAI1_EXTCLK,TIM2_ETR,EVENTOUT/OPAMP1_VINP,ADC12_IN5,RTC_TAMP2/WKUP1", L3 PA3 (io) "PA3/TIM2_CH4,TIM5_CH4,USART2_RX,LCD_SEG2,TIM15_CH2,EVENTOUT/OPAMP1_VOUT,ADC12_IN8", L4 PA6 (io) "PA6/TIM1_BKIN,TIM3_CH1,TIM8_BKIN,SPI1_MISO,USART3_CTS,QUADSPI_BK1_IO3,LCD_SEG3,TIM1_BKIN_COMP2,TIM8_BKIN_COMP2,TIM16_CH1,EVENTOUT/OPAMP2_VINP,ADC12_IN11", L5 PC5 (io) "PC5/USART3_RX,LCD_SEG23,EVENTOUT/COMP1_INP,ADC12_IN14,WKUP5", L6 PB2 (io) "PB2/RTC_OUT,LPTIM1_OUT,I2C3_SMBA,DFSDM_CKIN0,EVENTOUT/COMP1_INP", L7 PE8 (io) "PE8/TIM1_CH1N,DFSDM_CKIN2,FMC_D5,SAI1_SCK_B,EVENTOUT", L8 PE10 (io) "PE10/TIM1_CH2N,DFSDM_DATIN4,TSC_G5_IO1,QUADSPI_CLK,FMC_D7,SAI1_MCLK_B,EVENTOUT", L9 PE12 (io) "PE12/TIM1_CH3N,SPI1_NSS,DFSDM_DATIN5,TSC_G5_IO3,QUADSPI_BK1_IO0,FMC_D9,EVENTOUT", L10 PB10 (io) "PB10/TIM2_CH3,I2C2_SCL,SPI2_SCK,DFSDM_DATIN7,USART3_TX,LPUART1_RX,QUADSPI_CLK,LCD_SEG10,COMP1_OUT,SAI1_SCK_A,EVENTOUT", L12 PB12 (io) "PB12/TIM1_BKIN,TIM1_BKIN_COMP2,I2C2_SMBA,SPI2_NSS,DFSDM_DATIN1,USART3_CK,LPUART1_RTS_DE,TSC_G1_IO1,LCD_SEG12,SWPMI1_IO,SAI2_FS_A,TIM15_BKIN,EVENTOUT", M2 PA1 (io) "PA1/TIM2_CH2,TIM5_CH2,USART2_RTS_DE,UART4_RX,LCD_SEG0,TIM15_CH1N,EVENTOUT/OPAMP1_VINM,ADC12_IN6", M3 PA4 (io) "PA4/SPI1_NSS,SPI3_NSS,USART2_CK,SAI1_FS_B,LPTIM2_OUT,EVENTOUT/ADC12_IN9,DAC1_OUT1", M4 PA7 (io) "PA7/TIM1_CH1N,TIM3_CH2,TIM8_CH1N,SPI1_MOSI,QUADSPI_BK1_IO2,LCD_SEG4,TIM17_CH1,EVENTOUT/OPAMP2_VINM,ADC12_IN12", M5 PB0 (io) "PB0/TIM1_CH2N,TIM3_CH3,TIM8_CH2N,USART3_CK,QUADSPI_BK1_IO1,LCD_SEG5,COMP1_OUT,EVENTOUT/OPAMP2_VOUT,ADC12_IN15", M6 PB1 (io) "PB1/TIM1_CH3N,TIM3_CH4,TIM8_CH3N,DFSDM_DATIN0,USART3_RTS_DE,QUADSPI_BK1_IO0,LCD_SEG6,LPTIM2_IN1,EVENTOUT/COMP1_INM,ADC12_IN16", M7 PE7 (io) "PE7/TIM1_ETR,DFSDM_DATIN2,FMC_D4,SAI1_SD_B,EVENTOUT", M8 PE9 (io) "PE9/TIM1_CH1,DFSDM_CKOUT,FMC_D6,SAI1_FS_B,EVENTOUT", M9 PE11 (io) "PE11/TIM1_CH2,DFSDM_CKIN4,TSC_G5_IO2,QUADSPI_NCS,FMC_D8,EVENTOUT", M10 PE13 (io) "PE13/TIM1_CH3,SPI1_SCK,DFSDM_CKIN5,TSC_G5_IO4,QUADSPI_BK1_IO1,FMC_D10,EVENTOUT", M11 PE14 (io) "PE14/TIM1_CH4,TIM1_BKIN2,TIM1_BKIN2_COMP2,SPI1_MISO,QUADSPI_BK1_IO2,FMC_D11,EVENTOUT", M12 PE15 (io) "PE15/TIM1_BKIN,TIM1_BKIN_COMP1,SPI1_MOSI,QUADSPI_BK1_IO3,FMC_D12,EVENTOUT"
part B pins: C4 VDD (power), C11 VDD (power), C11 VCAP_2 (power) "VSSA", D3 VSS (power), E2 VBAT (power), E3 VSS (power), F2 VSS (power), F11 VSS (power), F12 VSS (power), G2 VDD (power), G11 VDD (power), G12 VDD (power), H3 VDD (power), J1 VSSA (power), K1 VREF- (power), L1 VREF+ (power) "VREF+/VREFBUF_OUT", L11 VCAP_1 (power) "VSSA", M1 VDDA (power)

## STMicroelectronics_STM8S105K6U6A_32-UFQFN_32
designator U?, comment STM8S105K6U6A
STM8 STM8S Mikrocontroller IC 8-Bit 16 MHz 32KB (32K x 8) FLASH 32-UFQFPN (5x5); Manufacturer: STMicroelectronics; Manufacturer PartNr: STM8S105K6U6A
footprint STMicroelectronics_32-UFQFN_32_R
pins: 1 NRST (in), 2 PA1/OSCIN (io), 3 PA2/OSCOUT (io), 4 VSS, 5 VCAP (out), 6 VDD (power), 7 VDDIO_1 (power), 8 PF4/AIN12 (io), 9 VDDA (power), 10 VSSA, 11 PB5/AIN5/I2CSDA (io), 12 PB4/AIN4/I2CSCL (io), 13 PB3/AIN3/TIM1ETR (io), 14 PB2/AIN2/TIM1CH3N (io), 15 PB1/AIN1/TIM1CH2N (io), 16 PB0/AIN0/TIM1CH1N (io), 17 PE5/SPINSS (io), 18 PC1/TIM1CH1/UART2CK (io), 19 PC2/TIM1CH2 (io), 20 PC3/TIM1CH3 (io), 21 PC4/TIM1CH4 (io), 22 PC5/SPISCK (io), 23 PC6/SPIMOSI (io), 24 PC7/SPIMISO (io), 25 PD0/TIM3CH2/TIM1BKIN/CLKCCO (io), 26 PD1/SWIM (io), 27 PD2/TIM3CH1/TIM2CH3 (io), 28 PD3/TIM2CH2 (io), 29 PD4/TIM2CH1 (io), 30 PD5/UART2TX (io), 31 PD6/UART2RX (io), 32 PD7/TLI/TIM1CH4 (io), 33 PAD

## STMPS2151STR
designator U?
Power Switch/Driver 1:1 N-Kanal 500mA SOT-23-5,  STMicroelectronics; Replaceable: no; voltage: 2,7V ~ 5,5V; Suppplier 1: Digi-Key; Dielectric Grade: -; Manufacturer PartNr: STMPS2151STR; Manufacturer: STMicroelectronics; value: STMPS2151STR; Supplier Part Number 1: 497-6934-1-ND; Footprint/Package: SC-74A, SOT-753
footprint SOT23-5L (Footprint not found)
pins: 1 OUT, 2 GND, 3 ~{FAULT} (out), 4 EN (in), 5 IN

## SUPP _TBU-CA065-200-WH
designator TVS?, comment TBU-CA065-200-WH
Surge Suppressors Bi-directional TBU; Manufacturer: Bourns; Replaceable: no; ComponentLink1Description: mouser; ComponentLink1URL: https://www.mouser.ch/ProductDetail/Bourns/TBU-CA065-200-WH?qs=%2fha2pyFaduj95%252bPp9esJZaeqLLOAsTrtt%2fj9VQKE6ynXA%2fELw5Iilg%3d%3d; Manufacturer PartNr: TBU-CA065-200-WH; Footprint/Package: TBU-CA_3_R; Supplier 1: Farnell; Supplier 2: Mouser; Supplier 3: Digi-Key; Supplier Part Number 3: TBU-CA065-200-WHDKR-ND; Supplier Part Number 2: 652-TBU-CA065-200-WH; Supplier Part Number 1: 1833393RL; value: TBU-CA065-200-WH
footprint Bourns_TBU-CA_3_R
pins: 1, 2 NU, 3

## SUPP _TBU-CA_TBU-CA_3
designator TVS?, comment TBU-CA065-200-WH
TBU-CA Series - TBU® High-Speed Protectors Bourns; voltage: 300V; Manufacturer: Bourns; Manufacturer PartNr: TBU-CA065-200-WH; Supplier 1: Mouser; Supplier Part Number 1: 652-TBU-CA065-200-WH; value: TBU-CA065-200-WH; Footprint/Package: Specific see datasheet
footprint Bourns_TBU-CA_3_R
pins: 1, 2 NU, 3

## SUPP _TBU-PL060-200-WH
designator TVS?, comment TBU-PL060-200-WH  (value not drawn)
TBU-PL Series dual 50 ohm Surge Suppressors, bi-directional, Bourns; Replaceable: no; voltage: 600V; Manufacturer: Bourns; Manufacturer PartNr: TBU-PL060-200-WH; Supplier 1: Mouser; Footprint/Package: DFN; Supplier Part Number 1: 652-TBU-PL060-200-WH; value: TBU-PL060-200-WH
footprint Bourns_TBU_PL060_WH (TBU-PL060-200-WH)
pins: 1, 2 NU, 4, 5, 6 NU, 8

## SYMBOL_R&M
designator SYMBOL, comment Reichle & De-Massari Logo  (net tie)
Replaceable: no; value: Overlay; Footprint/Package: 2.54mm
footprint SYMBOL_R&M (Reichle & De-Massari printing)
text: R&M Logo

## TexasInstruments_TRF7960ARHBT_32-VFQFN_32
designator U?, comment TRF7960ARHBT
RFID Reader IC 13.56MHz ISO 14443, ISO 15693, ISO 18000-3 SPI 2.7V ~ 5.5V 32-VFQFN Exposed Pad; Manufacturer: Texas Instruments; Replaceable: no; Dielectric Grade: NA; Manufacturer PartNr: TRF7960ARHBT; value: TRF7960ARHBT; Supplier 1: Digi-Key; Supplier Part Number 1: 296-29381-1-ND; voltage: 2.7V ~ 5.5V; Footprint/Package: 32-VFQFN Exposed Pad; tolerance: *
footprint TexasInstruments_32-VFQFN_32_R
pins: 1 VDDA (power), 2 VIN (power), 3 VDDRF (power), 4 VDDPA (power), 5 TXOUT (out), 6 VSSPA, 7 VSSRX, 8 RXIN1 (in), 9 RXIN2 (in), 10 VSS, 11 BG (out), 12 ASK/OOK (out), 13 IRQ (out), 14 MOD (out), 15 VSSA, 16 VDDIO (power), 17 IO0 (io), 18 IO1 (io), 19 IO2 (io), 20 IO3 (io), 21 IO4 (io), 22 IO5 (io), 23 IO6 (io), 24 IO7 (io), 25 EN2 (in), 26 DATACLK (in), 27 SYSCLK (out), 28 EN (in), 29 VSSD, 30 OSCOUT (out), 31 OSCIN (in), 32 VDDX (power)

## TISP4240M3BJR-S
designator D?
Thyristor Surge Protection Devices (TSPD) BI-DIRECTIONL PRTCTR 180volts; Manufacturer: Bourns; Replaceable: no; ComponentLink1Description: mouser; ComponentLink1URL: https://www.mouser.ch/ProductDetail/Diodes-Incorporated/DESD3V3S1BL-7B?qs=%2fha2pyFaduhA707awRoRgtNXj1BWecNQPXz8CtVYm9O48rqwfwJI0g%3d%3d; Footprint/Package: SMT DO-214AA-2; Supplier 1: Mouser; Supplier Part Number 1: 652-TISP4240M3BJR-S; Supplier 2: Digikey; Supplier Part Number 2: TISP4240M3BJR-STR-ND; Manufacturer PartNr: TISP4240M3BJR-S
footprint SMB_TISP4240M3BJR-S
pins: 1 A, 2 K

## TLV61046ADBVT
designator U?
Boost Switching Regulator IC Positive Adjustable 3.3V 1 Output SOT-23-6; Manufacturer: Texas Instruments; Replaceable: no; voltage: 3.3V-28V; ComponentLink1Description: mouser; ComponentLink1URL: https://www.mouser.ch/ProductDetail/Texas-Instruments/TPS54260DGQR?qs=sGAEpiMZZMvAX9OfPh%252b2NVVXPcZYNNxJ6f9D0IR5ghU%3d; Manufacturer PartNr: TLV61046ADBVT; Footprint/Package: SOT-23-6; Supplier 1: Digi-Key; Supplier Part Number 1: 296-46927-1-ND; Dielectric Grade: -; tolerance: -; value: TLV61046ADBVT; power: -
footprint SOT-23-6
pins: 1 SW, 2 GND, 3 FB (in), 4 EN (in), 5 VOUT, 6 VIN

## TP
designator TP?, comment Test Point  (value not drawn)
Replaceable: no; Remark: No solder,not tented; value: Test Point; Supplier 1: N/A; Supplier Part Number 1: N/A; Footprint/Package: pad,0.8mm,round; Manaufacturer PartNr: N/A
footprint TESTPOINT (Testpoint)
pins: 1

## TPS7A0522PDBVT
designator U?
Linear Voltage Regulator IC 1 Output 200mA fixed output at 2.2V, SOT-23-5; Manufacturer: Texas Instruments; Replaceable: no; voltage: 2,2V; ComponentLink1Description: mouser; ComponentLink1URL: https://www.mouser.ch/ProductDetail/Texas-Instruments/TPS54260DGQR?qs=sGAEpiMZZMvAX9OfPh%252b2NVVXPcZYNNxJ6f9D0IR5ghU%3d; Manufacturer PartNr: TPS7A0522PDBVT; Footprint/Package: SOT-23-5; Supplier 1: Digi-Key; Supplier Part Number 1: 296-TPS7A0522PDBVTCT-ND; Dielectric Grade: -; tolerance: -; value: TPS7A0522PDBVT; power: -
footprint SOT23-5L (STMPS2151STR, TPS7A0522PDBVT)
pins: 1 VIN, 2 GND (power), 3 EN, 4 NC, 5 VOUT

## TPS2057A
designator U?, comment Current Limiter  Supplier Part Number 1: 595-TPS2057ADG4  Supplier Part Number 2: TPS2057ADG4-ND
Power Switch ICs Power Distribution 0.345A 2.7-5.5V Trpl Hi-Side MOSFET; Manufacturer: Texas Instruments; Manufacturer PartNr: TPS2057ADG4; Replaceable: no; ComponentLink1Description: mouser; ComponentLink1URL: https://www.mouser.ch/ProductDetail/Texas-Instruments/TPS2057ADG4?qs=sGAEpiMZZMuCmTIBzycWfArOWgm%252bsETdOzNaBgsYWnc%3d; Footprint/Package: SOIC-16; Supplier 1: Mouser; Supplier 2: Digi-Key
footprint TPS2057ADG4_SOIC-16 (SOIC, 16-Leads, Body 10.00x4.00mm, Pitch 1.27mm, IPC Medium Density)
pins: 1 GNDA, 2 IN1 (power), 3 EN1 (in), 4 EN2 (in), 5 GNDB, 6 IN2 (power), 7 EN3 (in), 8 NC, 9 NC, 10 NC, 11 OUT3 (out), 12 OC3 (out), 13 OC2 (out), 14 OUT2 (out), 15 OUT1 (out), 16 OC1 (out)

## TPS54260
designator U?, comment Switching Voltage Regulator
Switching Voltage Regulators 3.5-60V 2.5A 2.5MHz Step Down Converter; Manufacturer: Texas Instruments; Manufacturer PartNr: TPS54260MDRCTEP; Replaceable: no; ComponentLink1Description: mouser; ComponentLink1URL: https://www.mouser.ch/ProductDetail/Texas-Instruments/TPS54260DGQR?qs=sGAEpiMZZMvAX9OfPh%252b2NVVXPcZYNNxJ6f9D0IR5ghU%3d; Footprint/Package: VSON10
footprint TPS54260_VSON10 (DRC Package  10-Pin VSON  Top View)
pins: 1 BOOT, 2 VIN (power), 3 EN (in), 4 SS/TR (in), 5 RT/CLK (in), 6 PWRGD (out), 7 VSNS (in), 8 COMP (out), 9 GND, 10 PH (out)

## TPS54260DGQR
designator U?
Switching Voltage Regulators 3.5-60V 2.5A 2.5MHz Step Down Converter; Manufacturer: Texas Instruments; Replaceable: no; ComponentLink1Description: mouser; ComponentLink1URL: https://www.mouser.ch/ProductDetail/Texas-Instruments/TPS54260DGQR?qs=sGAEpiMZZMvAX9OfPh%252b2NVVXPcZYNNxJ6f9D0IR5ghU%3d; Manufacturer PartNr: TPS54260DGQR; Footprint/Package: S-PDSO-G10; value: TPS54260DGQR; Dielectric Grade: -; voltage: -
footprint TPS54260_S-PDSO-G10 (PSO Package  10-Pin)
pins: 1 BOOT, 2 VIN (power), 3 EN (in), 4 SS/TR (in), 5 RT/CLK (in), 6 PWRGD (out), 7 VSNS (in), 8 COMP (out), 9 GND, 10 PH (out)

## TPS81256
designator U?, comment TPS81256SIPR
Boost Switching Regulator IC Positive Fixed 5V 1 Output, Inputrange 2.5 to 5.5V, 9-SMD BGA Module, Texas Instruments; Replaceable: no; ComponentLink1Description: mouser; ComponentLink1URL: https://www.mouser.ch/ProductDetail/Texas-Instruments/TPS54260DGQR?qs=sGAEpiMZZMvAX9OfPh%252b2NVVXPcZYNNxJ6f9D0IR5ghU%3d; Manufacturer: Texas Instruments; Manufacturer PartNr: TPS81256SIPR; Footprint/Package: 9-SMD Module, see datasheet; Supplier 1: Digi-Key; Supplier Part Number 1: 296-30558-1-ND; value: TPS81256SIPR; Dielectric Grade: -; power: -; voltage: 5V
footprint BGASIP0009A (TPS81256)
pins: A1 GND, A2 GND, A3 VOUT (power), B1 GND, B2 EN (in), B3 VOUT (power), C1 VIN (power), C2 VIN (power), C3 VOUT (power)

## USB3320C-EZK
designator U?, comment USB3320C-EZK-TR
USB3320C,  Hi-Speed USB Host, Device or OTG PHY with ULPI Low Pin Interface,  32-QFN (5x5); Manufacturer: Microchip; Replaceable: no; voltage: 1.8V ~ 3.3V; Manufacturer PartNr: USB3320C-EZK-TR; Supplier 1: Digi-Key; Dielectric Grade: -; Supplier Part Number 1: USB3320C-EZK-CT-ND; value: USB3320C-EZK-TR; power: -
footprint QFN32_0R5_5X5 (Footprint not found)
pins: 1 CLKOUT, 2 NXT, 3 D0, 4 D1, 5 D2, 6 D3, 7 D4, 8 REFSEL0, 9 D5, 10 D6, 11 REFSEL1, 12 NC, 13 D7, 14 REFSEL2, 15 SPK_L, 16 SPK_R, 17 CPEN, 18 DP, 19 DM, 20 VDD3.3, 21 VBAT, 22 VBUS, 23 ID, 24 RBIAS, 25 XO, 26 REFCLK, 27 RESETB, 28 VDD1.8, 29 STP, 30 VDD1.8, 31 DIR, 32 VDDIO, 33 GNDPAD

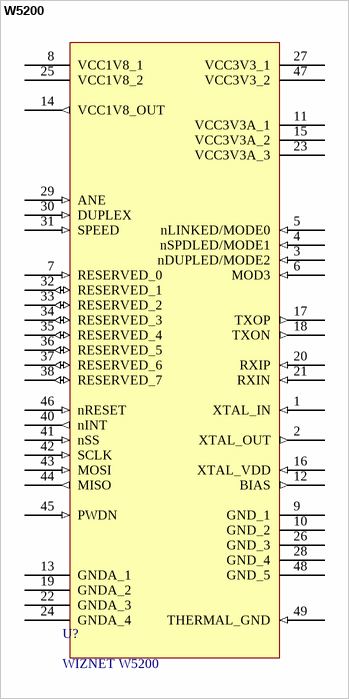
[diagram p9: symbol W5200]

## W5200
designator U?, comment WIZNET W5200
Ethernet ICs 3-IN-1 ENET CONTR TCP/IP+MAC+PHY; Operating Supply Voltage: 3.3V; Max Supply Voltage: 3.63V; Min Supply Voltage: 2.97V; Max Power Dissipation: 528mW; Interface: SPI; Operating Supply Current: 5uA; Data Rate: 100Mbps; Supplier 1: Digi-Key; Supplier Part Number 1: 1278-1001-6-ND; Manufacturer: WIZnet; Manufacturer Part Number: W5200; Stock 1: 3733; Pricing 1: 1=6.41, 10=5.771, 25=5.2576, 100=4.7447, 250=4.36, 500=3.97528, 1000=3.46235 (USD); Mount: Surface Mount; Case/Package: QFN; Number of Pins: 48; Weight: 0.005309oz; Min Operating Temperature: -40°C; Max Operating Temperature: 85°C; Package Quantity: 1; Packaging: Tape and Reel; Max Supply Current: 5uA; Length: 7mm; Height: 0.7mm; Width: 7mm; Lead Free: Lead Free
pins: 1 XTAL_IN (in), 2 XTAL_OUT (out), 3 nDUPLED/MODE2 (in), 4 nSPDLED/MODE1 (in), 5 nLINKED/MODE0 (in), 6 MOD3 (in), 7 RESERVED_0 (in), 8 VCC1V8_1 (power), 9 GND_1, 10 GND_2, 11 VCC3V3A_1 (power), 12 BIAS (out), 13 GNDA_1, 14 VCC1V8_OUT (out), 15 VCC3V3A_2 (power), 16 XTAL_VDD (in), 17 TXOP (out), 18 TXON (out), 19 GNDA_2, 20 RXIP (in), 21 RXIN (in), 22 GNDA_3, 23 VCC3V3A_3 (power), 24 GNDA_4, 25 VCC1V8_2 (power), 26 GND_3, 27 VCC3V3_1 (power) "3.3V  power supply for digital part", 28 GND_4, 29 ANE (in), 30 DUPLEX (in), 31 SPEED (in), 32 RESERVED_1 (io), 33 RESERVED_2 (io), 34 RESERVED_3 (io), 35 RESERVED_4 (io), 36 RESERVED_5 (io), 37 RESERVED_6 (io), 38 RESERVED_7 (io), 40 nINT (out), 41 nSS (in), 42 SCLK (in), 43 MOSI (in), 44 MISO (out), 45 PWDN (in), 46 nRESET (in), 47 VCC3V3_2 (power), 48 GND_5, 49 THERMAL_GND (in)